# Altium footprint library Lib Marius.PcbLib: 393 footprints (part 19 of 25)
Each footprint in its own frame and in the unit in brackets; x right, y up, seen from the top. Pads: shape width x height; smd on the part's side, far side on the other; paste and mask are expansions set on the pad; w line width, h text height; cw(c..) or ccw(c..) is an arc to the next point about the centre after c.
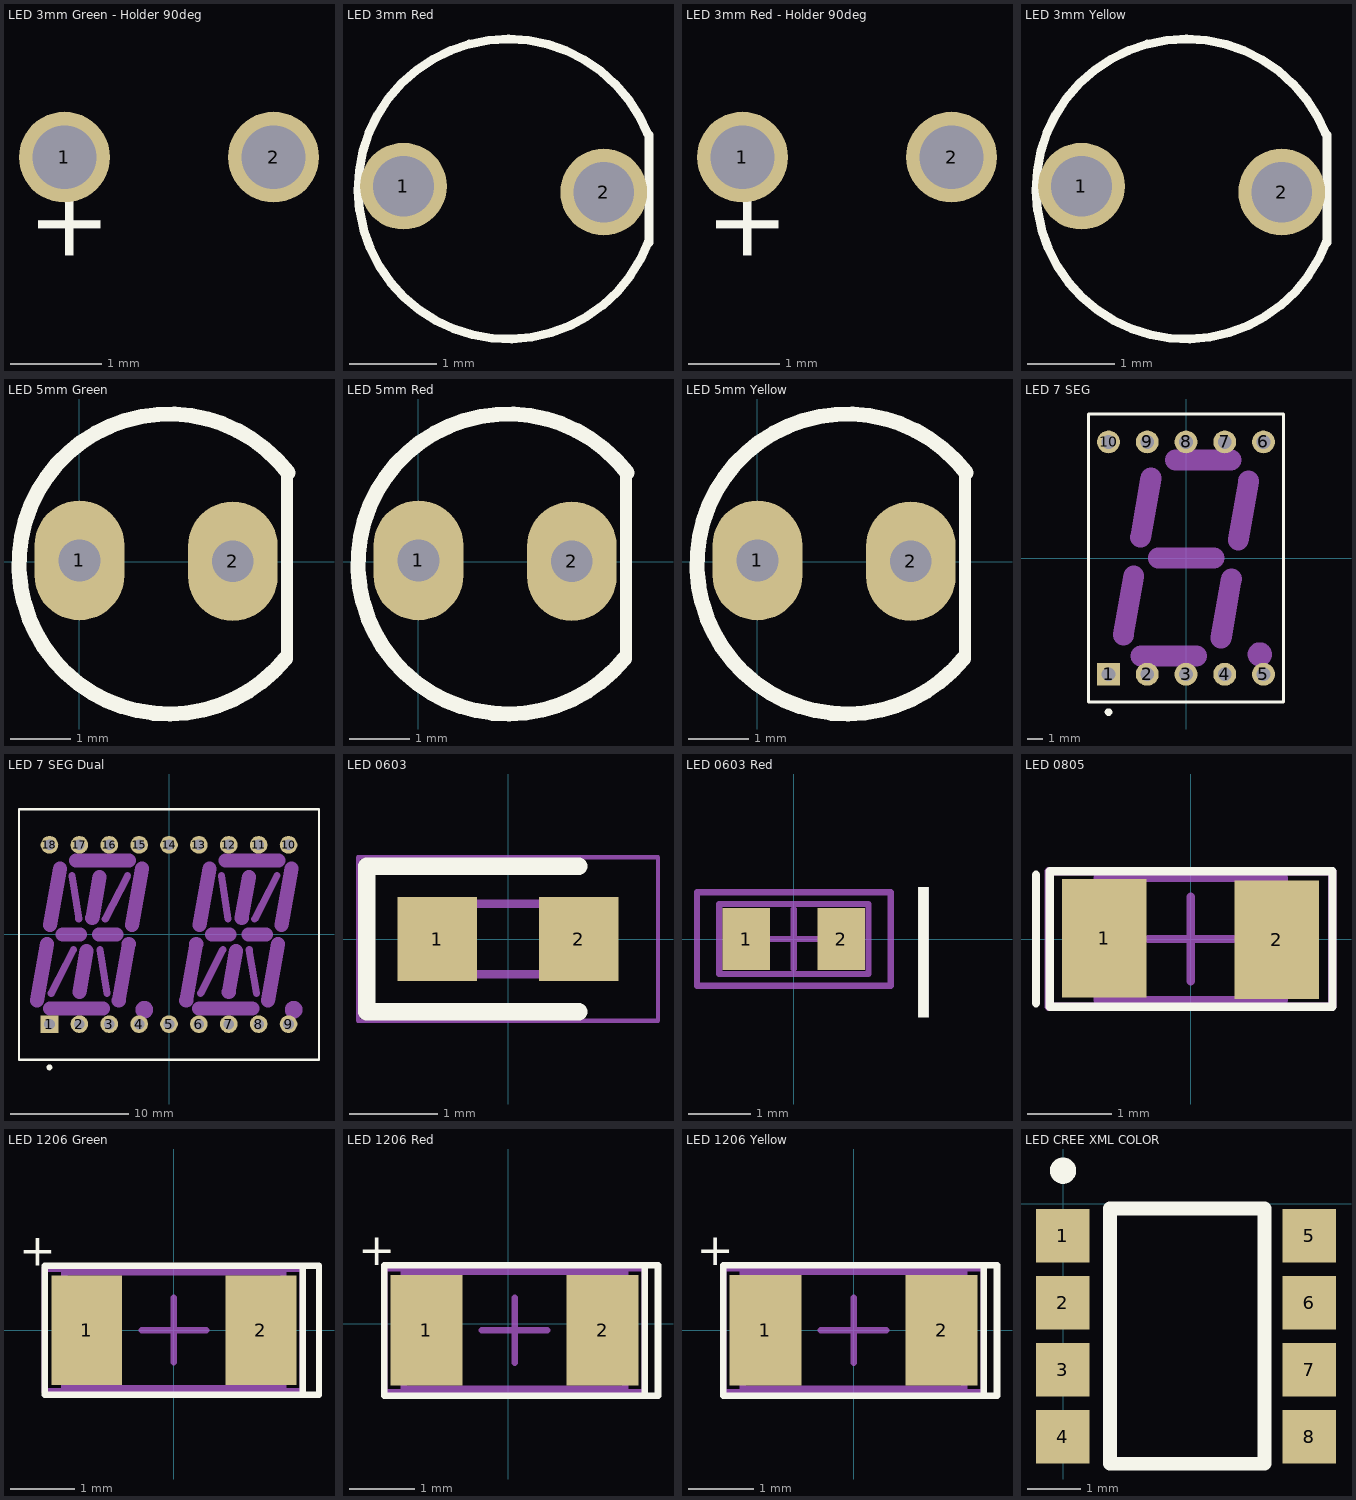
[diagram p18: the footprints below, top view; thin cyan lines are the x and y axes]

## LED 3mm Green - Holder 90deg [mm] "LED 3mm Green"
height 0.5
pads (2):
  round 1 hole 0.7: 1(1.4,3) 2(3.7,3)
Top Overlay:
  text "+" at 1.8,1.8 h0.8
3D body: height 6.35, standoff 0, extent 0.5,-1.5 4.5,3.5
3D body "LED 3mm Green.STEP": height 4.79, standoff 1.5, extent 0.8,-5.3 4.1,2.7

## LED 3mm Red [mm] "LED 3mm Red"
height 0.5
pads (2):
  round 1 hole 0.7: 1(0.756,-3.423) 2(3.065,-3.491)
Top Overlay:
  lines w0.1: 3.567,-2.816 ccw(c1.961,-3.455) 3.581,-4.059 ; 3.585,-4.073 3.585,-2.834
3D body "LED 3mm Red.STEP": height 5.51, standoff -2.49, extent 0.298,-5.125 3.598,-1.837

## LED 3mm Red - Holder 90deg [mm] "LED 3mm Green"
height 0.5
pads (2):
  round 1 hole 0.7: 1(1.4,3) 2(3.7,3)
Top Overlay:
  text "+" at 1.8,1.8 h0.8
3D body "LED 3mm Red.STEP": height 4.79, standoff 1.5, extent 0.9,-5.3 4.2,2.7
3D body: height 6.35, standoff 0, extent 0.5,-1.5 4.5,3.5

## LED 3mm Yellow [mm] "LED 3mm Yellow"
height 0.5
pads (2):
  round 1 hole 0.7: 1(0.756,-3.423) 2(3.065,-3.491)
Top Overlay:
  lines w0.1: 3.567,-2.816 ccw(c1.961,-3.455) 3.581,-4.059 ; 3.585,-4.073 3.585,-2.834
3D body "LED 3mm Yellow.STEP": height 5.51, standoff -2.49, extent 0.298,-5.125 3.598,-1.837

## LED 5mm Green [mm] "LED 5mm Green"
height 0.5
pads (2):
  oval 1.5x2 hole 0.7: 1(0.001,0.025) 2(2.563,0.011)
Top Overlay:
  lines w0.2: 3.465,-1.611 3.465,1.47 3.485,1.491
  lines w0.254: 3.439,-1.619 cw(c1.497,-0.035) 3.485,1.491
3D body "LED 5mm Green.STEP": height 12.31, standoff -2.49, extent -1.712,-2.937 3.708,3.082

## LED 5mm Red [mm] "LED 5mm Red"
height 0.5
pads (2):
  oval 1.5x2 hole 0.7: 1(0.001,0.025) 2(2.563,0.011)
Top Overlay:
  lines w0.2: 3.465,-1.611 3.465,1.47 3.485,1.491
  lines w0.254: 3.439,-1.619 cw(c1.497,-0.035) 3.485,1.491
3D body "LED 5mm Red.STEP": height 12.31, standoff -2.49, extent -1.712,-2.937 3.708,3.082

## LED 5mm Yellow [mm] "LED 5mm Yellow"
height 0.5
pads (2):
  oval 1.5x2 hole 0.7: 1(0.001,0.025) 2(2.563,0.011)
Top Overlay:
  lines w0.2: 3.465,-1.611 3.465,1.47 3.485,1.491
  lines w0.254: 3.439,-1.619 cw(c1.497,-0.035) 3.485,1.491
3D body "LED 5mm Yellow.STEP": height 12.31, standoff -2.49, extent -1.712,-2.937 3.708,3.082

## LED 7 SEG [mm] "LED, 7-Segment Display, 14.2 mm, RHD; 10 Leads; Row Space 15.24 mm; Pitch 2.54 mm"
height 8.25
pads (10):
  rect 1.5x1.5 hole 0.9: 1(-5.08,-7.62)
  round 1.5 hole 0.9: 2(-2.54,-7.62) 3(0,-7.62) 4(2.54,-7.62) 5(5.08,-7.62) 6(5.08,7.62) 7(2.54,7.62) 8(0,7.62) 9(-2.54,7.62) 10(-5.08,7.62)
Top Overlay:
  circle w0.25: c-5.08,-10.1 r0.125
  lines w0.2: -6.4,-9.45 6.4,-9.45 6.4,9.45 -6.4,9.45 -6.4,-9.45
Mechanical 1:
  circle w1: c4.842,-6.316 r0.296
  lines w1.37: -4.108,-5.054 -3.425,-1.17 ; -2.974,1.368 -2.293,5.255 ; -2.958,-6.429 0.692,-6.426 ; -1.821,0 1.828,0 ; -0.689,6.425 2.96,6.425 ; 2.295,-5.256 2.98,-1.371 ; 3.427,1.169 4.11,5.058
Mechanical 13:
  lines w0.1: -6.4,-9.45 -6.4,9.45 6.4,9.45 6.4,-9.45 -6.4,-9.45
3D body: height 8.25, standoff 0, extent -6.4,-9.45 6.4,9.45

## LED 7 SEG Dual [mm] "LED, Alphanumeric Display, 13.8 mm, Dual Character; 18 Leads; Row Space 15.24 mm; Pitch 2.54 mm"
height 7.27
pads (18):
  rect 1.5x1.5 hole 0.9: 1(-10.16,-7.62)
  round 1.5 hole 0.9: 2(-7.62,-7.62) 3(-5.08,-7.62) 4(-2.54,-7.62) 5(0,-7.62) 6(2.54,-7.62) 7(5.08,-7.62) 8(7.62,-7.62) 9(10.16,-7.62) 10(10.16,7.62) 11(7.62,7.62) 12(5.08,7.62) 13(2.54,7.62) 14(0,7.62) 15(-2.54,7.62) 16(-5.08,7.62) 17(-7.62,7.62) 18(-10.16,7.62)
Top Overlay:
  circle w0.25: c-10.16,-11.3 r0.125
  lines w0.2: -12.75,-10.65 12.75,-10.65 12.75,10.65 -12.75,10.65 -12.75,-10.65
Mechanical 1:
  circle w1.2: c-2.1,-6.4 r0.15
  circle w1.2: c10.6,-6.4 r0.15
  lines w0.6: -10.01,-5 -8.12,-1.3 ; -8.25,5 -7.67,1.3 ; -5.88,-1.3 -5.28,-5 ; -5.42,1.3 -3.52,5 ; 2.69,-5 4.58,-1.3 ; 4.45,5 5.03,1.3 ; 6.82,-1.3 7.42,-5 ; 7.28,1.3 9.18,5
  lines w1.2: -11.23,-5.6 -10.38,-0.8 ; -10.13,-6.3 -5.62,-6.3 ; -10.1,0.8 -9.26,5.58 ; -9.035,0 -7.58,0 ; -7.9,6.3 -3.39,6.3 ; -7.62,-4.89 -7.01,-1.4 ; -6.52,1.41 -5.91,4.89 ; -5.96,0 -4.465,0 ; -4.27,-5.6 -3.42,-0.8 ; -3.13,0.81 -2.3,5.59 ; 1.47,-5.6 2.32,-0.8 ; 2.57,-6.3 7.08,-6.3 ; 2.6,0.8 3.44,5.58 ; 3.665,0 5.14,0 ; 4.8,6.3 9.31,6.3 ; 5.08,-4.89 5.69,-1.4 ; 6.18,1.41 6.79,4.89 ; 6.76,0 8.235,0 ; 8.43,-5.6 9.28,-0.8 ; 9.57,0.81 10.4,5.59
Mechanical 13:
  lines w0.1: -12.75,-10.65 -12.75,10.65 12.75,10.65 12.75,-10.65 -12.75,-10.65
3D body: height 7.27, standoff 0, extent -12.75,-10.65 12.75,10.65

## LED 0603 [mm]
pads (2):
  rect 0.9x0.95 smd: 1(-0.8,0) 2(0.8,0)
Top Overlay:
  lines w0.2: 0.8,-0.825 -1.6,-0.825 -1.6,0.825 0.8,0.825
Mechanical 13:
  lines w0.1: -0.8,0.133 -0.533,0.4 ; -0.8,-0.4 -0.8,0.4 0.8,0.4 0.8,-0.4 -0.8,-0.4
Mechanical 15:
  lines w0.05: -1.7,-0.925 -1.7,0.925 1.7,0.925 1.7,-0.925 -1.7,-0.925
3D body "LTST-C190KRKT.stp": height 0.8, standoff 0, extent -0.83,-0.4 0.77,0.4

## LED 0603 Red [mm] "LED 0603"
height 0.85
pads (2):
  rect 0.76x1 smd: 1(-0.762,0) 2(0.762,0)
Top Overlay:
  text "|" at 1.727,-0.762 h1.52
Mechanical 1:
  lines w0.1: -1.194,-0.559 -1.194,0.559 1.194,0.559 1.194,-0.559 -1.194,-0.559
  text "|" at 1.727,-0.762 h1.52
Mechanical 15:
  lines w0.1: -0.475,0 0.475,0 ; 0,-0.475 0,0.475 ; -1.55,-0.75 1.55,-0.75 1.55,0.75 -1.55,0.75 -1.55,-0.75
3D body "led_0603.step": height 0.6, standoff 0, extent -0.835,-0.4 0.785,0.4

## LED 0805 [mm] "0805 LED"
height 0.5
pads (2):
  rect 1x1.4 smd: 1(-1.022,0.007) 2(1.018,-0.011)
Top Overlay:
  lines w0.1: -1.83,-0.76 -1.83,0.76 ; -1.669,-0.8 1.676,-0.8 1.676,0.8 -1.669,0.8 -1.669,-0.8
Mechanical 13:
  lines w0.1: -1.1,-0.725 -1.1,0.725 1.1,0.725 1.1,-0.725 -1.1,-0.725
Mechanical 15:
  lines w0.1: -0.5,0 0.5,0 ; 0,-0.5 0,0.5 ; -1.679,-0.8 -1.679,0.8 1.671,0.8 1.671,-0.8 -1.679,-0.8
3D body "Res 0805.STEP": height 0.79, standoff 0, extent -1.254,-0.622 1.254,0.622

## LED 1206 Green [mm] "LED 1206 Green"
height 0.5
pads (2):
  rect 1.1x1.7 smd: 1(-1.35,0) 2(1.35,0)
Top Overlay:
  lines w0.1: 2.002,0.997 -2,0.997 -2,-1 2,-1 ; 2,-1 2,1 2.25,1 2.25,-1 2,-1
  text "+" at -2.4,1 h0.5
Mechanical 13:
  lines w0.1: -1.7,-0.9 1.7,-0.9 1.7,0.9 -1.7,0.9 -1.7,-0.9
Mechanical 15:
  lines w0.1: -0.5,0 0.5,0 ; 0,-0.5 0,0.5 ; -2,-0.95 2,-0.95 2,0.95 -2,0.95 -2,-0.95
3D body "LED 1206 Green.STEP": height 1.11, standoff -0.4, extent -1.574,-0.805 1.627,0.795

## LED 1206 Red [mm] "LED 1206 Red"
height 0.5
pads (2):
  rect 1.1x1.7 smd: 1(-1.25,-0.1) 2(1.45,-0.1)
Top Overlay:
  lines w0.1: 2.1,-1.1 2.1,0.9 ; 2.1,-1.1 2.3,-1.1 2.3,0.9 2.1,0.9 ; 2.1,-1.1 -1.9,-1.1 -1.9,0.9 2.1,0.9
  text "+" at -2.3,0.9 h0.5
Mechanical 13:
  lines w0.1: -1.6,-1 -1.6,0.8 1.8,0.8 1.8,-1 -1.6,-1
Mechanical 15:
  lines w0.1: -0.4,-0.1 0.6,-0.1 ; 0.1,-0.6 0.1,0.4 ; -1.9,-1.05 -1.9,0.85 2.1,0.85 2.1,-1.05 -1.9,-1.05
3D body "LED 1206 Red.STEP": height 1.1, standoff 0, extent -1.532,-0.908 1.688,0.692

## LED 1206 Yellow [mm] "LED 1206 Yellow"
height 0.5
pads (2):
  rect 1.1x1.7 smd: 1(-1.35,0) 2(1.35,0)
Top Overlay:
  lines w0.1: 2,-1 -2,-1 -2,1 2,1 ; 2,-1 2.2,-1 2.2,1 2,1 ; 2,-1 2,1
  text "+" at -2.4,1 h0.5
Mechanical 13:
  lines w0.1: -1.7,-0.9 1.7,-0.9 1.7,0.9 -1.7,0.9 -1.7,-0.9
Mechanical 15:
  lines w0.1: -0.5,0 0.5,0 ; 0,-0.5 0,0.5 ; -2,-0.95 2,-0.95 2,0.95 -2,0.95 -2,-0.95
3D body "LED 1206 Yellow.STEP": height 1.11, standoff -0.4, extent -1.573,-0.805 1.627,0.795

## LED CREE XML COLOR [mm] "Osram RGBW LED"
height 2
pads (8):
  rect 1x1 smd: 1(-0.011,-0.6) 2(-0.011,-1.85) 3(-0.011,-3.1) 4(-0.011,-4.35) 5(4.589,-0.6) 6(4.589,-1.85) 7(4.589,-3.1) 8(4.589,-4.35)
Top Overlay:
  lines w0.254: 0.107,0.651 ccw(c-0.006,0.616) 0.112,0.616 ; 0.871,-4.852 0.871,-0.089 3.754,-0.089 3.754,-4.852 0.871,-4.852